# Altium footprint library 2896241.PcbLib: 1 footprints
Each footprint in its own frame and in the unit in brackets; x right, y up, seen from the top. Pads: shape width x height; smd on the part's side, far side on the other; paste and mask are expansions set on the pad; w line width, h text height; cw(c..) or ccw(c..) is an arc to the next point about the centre after c.

## 2896241 [mm]
3D body "pxc_2896241_03_BC-17-8-UT-HBUS-BK_3D.stp": height 12.55, standoff -5.25, extent -2.425,-13.25 88.575,8.35